# Altium footprint library 5019.PcbLib: 1 footprints
Each footprint in its own frame and in the unit in brackets; x right, y up, seen from the top. Pads: shape width x height; smd on the part's side, far side on the other; paste and mask are expansions set on the pad; w line width, h text height; cw(c..) or ccw(c..) is an arc to the next point about the centre after c.
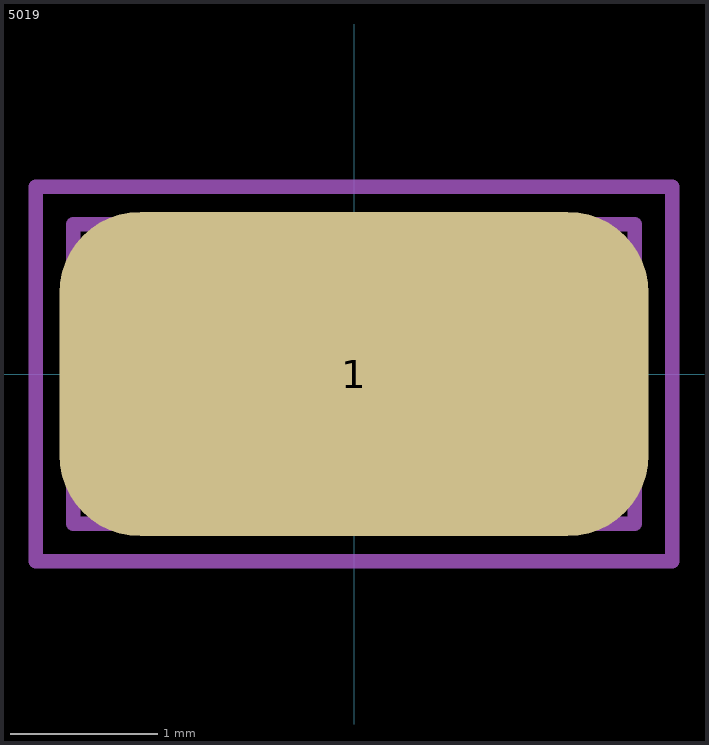
[diagram p0: the footprint, top view; thin cyan lines are the x and y axes]

## 5019 [mm] "SMD Testpoint"
pads (1):
  rrect50% 4x2.2 smd: 1(0,0)
Top Assembly:
  lines w0.1: -1.905,-1.016 1.905,-1.016 1.905,1.016 -1.905,1.016 -1.905,-1.016
Top Courtyard:
  lines w0.1: -2.159,-1.27 2.159,-1.27 2.159,1.27 -2.159,1.27 -2.159,-1.27
3D body "5019--3DModel-STEP-56544.STEP": height 2.34, standoff 0.06, extent -1.905,-1.015 1.905,1.015